# Altium schematic symbol library Resistor_0805.SchLib: 258 symbols (part 2 of 5)
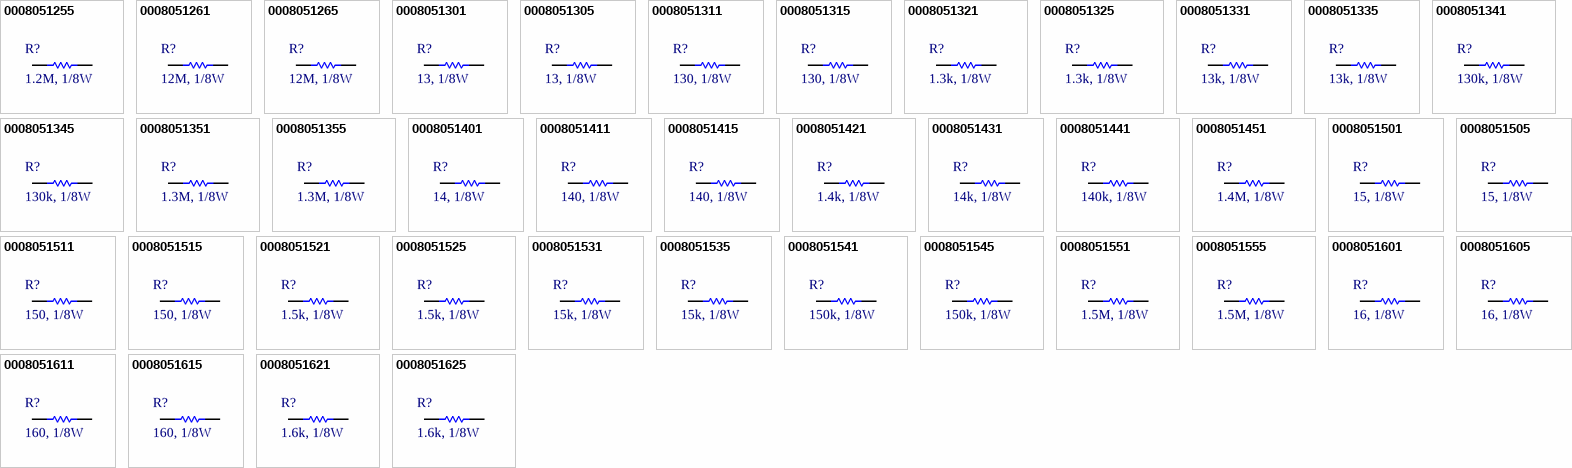
[diagram p7: symbols 0008051255 to 0008051625]

## 0008051451
designator R?, comment 1.4M, 1/8W
RES, 1.4M Ohm, size 0805, 1%; Manufacture  Name: Vishay Dale; Manufacture  SN: CRCW08051M40FKEA; Resistance tolerance: +/-1%; Supply 1 Name: Mouser; Supply 1 SN: 71-CRCW08051M40FKEA; Supply 2 Name: Digi-Key; Supply 2 SN: 541-1.40MCTR-ND; Supply 3 Name: Thegioiic; Size: 0805; Mounting Technology: SMT; Rated Power: 1/8 W; Datasheet: https://www.vishay.com/docs/20035/dcrcwe3.pdf; Resistance: 1.4M; Supply 1 URL: https://www.mouser.vn/ProductDetail/Vishay-Dale/CRCW08051M40FKEA?qs=1CkV0QOCgMrnDZ6HKgVapA%3D%3D; Supply 2 URL: https://www.digikey.com/en/products/detail/vishay-dale/CRCW08051M40FKEA/1176031; Supply 3 SN: N/A; Supply 3 URL: N/A
footprint RESISTOR_0805 (Chip Resistor, 2-Leads, Body 2,00x1,20mm, IPC Medium Density)
pins: 1, 2

## 0008051501
designator R?, comment 15, 1/8W
RES, 15 Ohm, size 0805, 1%; Manufacture  Name: Vishay Dale; Manufacture  SN: CRCW080515R0FKEB; Resistance tolerance: +/-1%; Resistance: 15; Supply 1 Name: Mouser; Supply 1 SN: 71-CRCW080515R0FKEAC; Supply 2 Name: Digi-Key; Supply 2 SN: 541-CRCW080515R0FKEBTR-ND; Supply 3 Name: Thegioiic; Size: 0805; Mounting Technology: SMT; Rated Power: 1/8 W; Datasheet: https://www.vishay.com/docs/20035/dcrcwe3.pdf; Supply 1 URL: https://www.mouser.vn/ProductDetail/Vishay-Dale/CRCW080515R0FKEAC?qs=E3Y5ESvWgWM44NF3DwTdDQ%3D%3D; Supply 2 URL: https://www.digikey.com/en/products/detail/vishay-dale/CRCW080515R0FKEB/5073898; Supply 3 SN: N/A; Supply 3 URL: https://www.mouser.vn/ProductDetail/Vishay-Dale/CRCW080514R0FKEA?qs=bMjB6bAaLENYJ14k%252BREMxw%3D%3D
footprint RESISTOR_0805 (Chip Resistor, 2-Leads, Body 2,00x1,20mm, IPC Medium Density)
pins: 1, 2

## 0008051505
designator R?, comment 15, 1/8W
RES, 15 Ohm, size 0805, 5%; Manufacture  Name: Vishay Dale; Manufacture  SN: CRCW080515R0JNEA; Resistance tolerance: +/-5%; Resistance: 15; Supply 1 Name: Mouser; Supply 1 SN: 71-CRCW0805J-15; Supply 2 Name: Digi-Key; Supply 2 SN: 541-15ATR-ND; Supply 3 Name: Thegioiic; Size: 0805; Mounting Technology: SMT; Rated Power: 1/8 W; Datasheet: https://www.vishay.com/docs/20035/dcrcwe3.pdf; Supply 1 URL: https://www.mouser.vn/ProductDetail/Vishay-Dale/CRCW080515R0JNTA?qs=7lMtFQ21GD%2Fy1G9yTvj1Dg%3D%3D; Supply 2 URL: https://www.digikey.com/en/products/detail/vishay-dale/CRCW080515R0JNEA/1175154; Supply 3 SN: N/A; Supply 3 URL: https://www.thegioiic.com/dien-tro-15-ohm-0805-5-
footprint RESISTOR_0805 (Chip Resistor, 2-Leads, Body 2,00x1,20mm, IPC Medium Density)
pins: 1, 2

## 0008051511
designator R?, comment 150, 1/8W
RES, 150 Ohm, size 0805, 1%; Manufacture  Name: Vishay Dale; Manufacture  SN: CRCW0805150RFKEAC; Resistance tolerance: +/-1%; Resistance: 150; Supply 1 Name: Mouser; Supply 1 SN: 71-CRCW0805150RFKEB; Supply 2 Name: Digi-Key; Supply 2 SN: 541-CRCW0805150RFKEACTR-ND; Supply 3 Name: Thegioiic; Size: 0805; Mounting Technology: SMT; Rated Power: 1/8 W; Datasheet: https://www.vishay.com/docs/28773/crcwce3.pdf; Supply 1 URL: https://www.mouser.vn/ProductDetail/Vishay-Dale/CRCW0805150RFKEB?qs=bMjB6bAaLEOZD7oncshwRw%3D%3D; Supply 2 URL: https://www.digikey.com/en/products/detail/vishay-dale/CRCW0805150RFKEAC/7922303; Supply 3 SN: N/A; Supply 3 URL: N/A
footprint RESISTOR_0805 (Chip Resistor, 2-Leads, Body 2,00x1,20mm, IPC Medium Density)
pins: 1, 2

## 0008051515
designator R?, comment 150, 1/8W
RES, 150 Ohm, size 0805, 5%; Manufacture  Name: Vishay Dale; Manufacture  SN: CRCW0805150RFKEAC; Resistance tolerance: +/-5%; Resistance: 150; Supply 1 Name: Mouser; Supply 1 SN: 541-150ATR-ND; Supply 2 Name: Digi-Key; Supply 3 Name: Thegioiic; Size: 0805; Mounting Technology: SMT; Rated Power: 1/8 W; Datasheet: https://www.vishay.com/docs/20035/dcrcwe3.pdf; Supply 1 URL: https://www.digikey.com/en/products/detail/vishay-dale/CRCW0805150RJNEA/1175178; Supply 2 SN: 541-150ATR-ND; Supply 2 URL: https://www.digikey.com/en/products/detail/vishay-dale/CRCW0805150RJNEA/1175178; Supply 3 SN: N/A; Supply 3 URL: https://www.thegioiic.com/dien-tro-150-ohm-0805-5
footprint RESISTOR_0805 (Chip Resistor, 2-Leads, Body 2,00x1,20mm, IPC Medium Density)
pins: 1, 2

## 0008051521
designator R?, comment 1.5k, 1/8W
RES, 1.5k Ohm, size 0805, 1%; Manufacture  Name: Vishay Dale; Manufacture  SN: CRCW08051K50FKEAC; Resistance tolerance: +/-1%; Supply 1 Name: Mouser; Supply 1 SN: 71-CRCW0805-1.5K-E3; Supply 2 Name: Digi-Key; Supply 2 SN: 541-4161-2-ND; Supply 3 Name: Thegioiic; Size: 0805; Mounting Technology: SMT; Rated Power: 1/8 W; Datasheet: https://www.vishay.com/docs/28773/crcwce3.pdf; Resistance: 1.5k; Supply 1 URL: https://www.mouser.vn/ProductDetail/Vishay-Dale/CRCW08051K50FKEA?qs=DZvKvnD5UYVo4ieimONp3Q%3D%3D; Supply 2 URL: https://www.digikey.com/en/products/detail/vishay-dale/CRCW08051K50FKEAC/7928583; Supply 3 SN: N/A; Supply 3 URL: N/A
footprint RESISTOR_0805 (Chip Resistor, 2-Leads, Body 2,00x1,20mm, IPC Medium Density)
pins: 1, 2

## 0008051525
designator R?, comment 1.5k, 1/8W
RES, 1.5k Ohm, size 0805, 5%; Manufacture  Name: Vishay Dale; Manufacture  SN: CRCW08051K50JNEAC; Resistance tolerance: +/-5%; Supply 1 Name: Mouser; Supply 1 SN: 71-CRCW0805J-1.5K-E3; Supply 2 Name: Digi-Key; Supply 2 SN: 541-CRCW08051K50JNEACTR-ND; Supply 3 Name: Thegioiic; Size: 0805; Mounting Technology: SMT; Rated Power: 1/8 W; Datasheet: https://www.vishay.com/docs/28773/crcwce3.pdf; Resistance: 1.5k; Supply 1 URL: https://www.mouser.vn/ProductDetail/Vishay-Dale/CRCW08051K50JNEA?qs=DZvKvnD5UYVu0sAToX1nWg%3D%3D; Supply 2 URL: https://www.digikey.com/en/products/detail/vishay-dale/CRCW08051K50JNEAC/7923721; Supply 3 SN: N/A; Supply 3 URL: https://www.thegioiic.com/dien-tro-1-5-kohm-0805-5
footprint RESISTOR_0805 (Chip Resistor, 2-Leads, Body 2,00x1,20mm, IPC Medium Density)
pins: 1, 2

## 0008051531
designator R?, comment 15k, 1/8W
RES, 15k Ohm, size 0805, 1%; Manufacture  Name: Vishay Dale; Manufacture  SN: CRCW080515K0FKEAC; Resistance tolerance: +/-1%; Supply 1 Name: Mouser; Supply 1 SN: 71-CRCW0805-15K-E3; Supply 2 Name: Digi-Key; Supply 2 SN: 541-4136-2-ND; Supply 3 Name: Thegioiic; Size: 0805; Mounting Technology: SMT; Rated Power: 1/8 W; Datasheet: https://www.vishay.com/docs/28773/crcwce3.pdf; Resistance: 15k; Supply 1 URL: https://www.mouser.vn/ProductDetail/Vishay-Dale/CRCW080515K0FKEA?qs=bMjB6bAaLEM4rXT2DoR3BA%3D%3D; Supply 2 URL: https://www.digikey.com/en/products/detail/vishay-dale/CRCW080515K0FKEAC/7928558; Supply 3 SN: N/A; Supply 3 URL: N/A
footprint RESISTOR_0805 (Chip Resistor, 2-Leads, Body 2,00x1,20mm, IPC Medium Density)
pins: 1, 2

## 0008051535
designator R?, comment 15k, 1/8W
RES, 15k Ohm, size 0805, 5%; Manufacture  Name: Vishay Dale; Manufacture  SN: CRCW080515K0JNEA; Resistance tolerance: +/-5%; Supply 1 Name: Mouser; Supply 1 SN: 71-CRCW0805J-15K-E3; Supply 2 Name: Digi-Key; Supply 2 SN: 541-15KATR-ND; Supply 3 Name: Thegioiic; Size: 0805; Mounting Technology: SMT; Rated Power: 1/8 W; Datasheet: https://www.vishay.com/docs/20035/dcrcwe3.pdf; Resistance: 15k; Supply 1 URL: https://www.mouser.vn/ProductDetail/Vishay-Dale/CRCW080515K0JNEA?qs=bMjB6bAaLENV0lmPLLG8xQ%3D%3D; Supply 2 URL: https://www.digikey.com/en/products/detail/vishay-dale/CRCW080515K0JNEA/1175226; Supply 3 SN: N/A; Supply 3 URL: https://www.thegioiic.com/dien-tro-15-kohm-0805-5
footprint RESISTOR_0805 (Chip Resistor, 2-Leads, Body 2,00x1,20mm, IPC Medium Density)
pins: 1, 2

## 0008051541
designator R?, comment 150k, 1/8W
RES, 150k Ohm, size 0805, 1%; Manufacture  Name: Vishay Dale; Manufacture  SN: CRCW0805150KFKEAC; Resistance tolerance: +/-1%; Supply 1 Name: Mouser; Supply 1 SN: 71-RCV0805150KFKEA; Supply 2 Name: Digi-Key; Supply 2 SN: 541-CRCW0805150KFKEACTR-ND; Supply 3 Name: Thegioiic; Size: 0805; Mounting Technology: SMT; Rated Power: 1/8 W; Datasheet: https://www.vishay.com/docs/28773/crcwce3.pdf; Resistance: 150k; Supply 1 URL: https://www.mouser.vn/ProductDetail/Vishay-Draloric/RCV0805150KFKEA?qs=%252BZJHVReOaHoD19mGJzXQNg%3D%3D; Supply 2 URL: https://www.digikey.com/en/products/detail/vishay-dale/CRCW0805150KFKEAC/7922326; Supply 3 SN: N/A; Supply 3 URL: https://www.vishay.com/docs/28773/crcwce3.pdf
footprint RESISTOR_0805 (Chip Resistor, 2-Leads, Body 2,00x1,20mm, IPC Medium Density)
pins: 1, 2

## 0008051545
designator R?, comment 150k, 1/8W
RES, 150k Ohm, size 0805, 5%; Manufacture  Name: Vishay Dale; Manufacture  SN: CRCW0805150KJNEA; Resistance tolerance: +/-5%; Supply 1 Name: Mouser; Supply 1 SN: 71-CRCW0805150KJNEA; Supply 2 Name: Digi-Key; Supply 2 SN: 541-150KATR-ND; Supply 3 Name: Thegioiic; Size: 0805; Mounting Technology: SMT; Rated Power: 1/8 W; Datasheet: https://www.vishay.com/docs/20035/dcrcwe3.pdf; Resistance: 150k; Supply 1 URL: https://www.mouser.vn/ProductDetail/Vishay-Dale/CRCW0805150KJNEA?qs=bMjB6bAaLEMh7CXrahQqdQ%3D%3D; Supply 2 URL: https://www.digikey.com/en/products/detail/vishay-dale/CRCW0805150KJNEA/1175250; Supply 3 SN: N/A; Supply 3 URL: https://www.thegioiic.com/dien-tro-150-kohm-0805-5
footprint RESISTOR_0805 (Chip Resistor, 2-Leads, Body 2,00x1,20mm, IPC Medium Density)
pins: 1, 2

## 0008051551
designator R?, comment 1.5M, 1/8W
RES, 1.5M Ohm, size 0805, 1%; Manufacture  Name: Vishay Dale; Manufacture  SN: CRCW08051M50FKEB; Resistance tolerance: +/-1%; Supply 1 Name: Mouser; Supply 1 SN: 71-CRCW08051M50FKEAC; Supply 2 Name: Digi-Key; Supply 2 SN: 541-CRCW08051M50FKEBTR-ND; Supply 3 Name: Thegioiic; Size: 0805; Mounting Technology: SMT; Rated Power: 1/8 W; Datasheet: https://www.vishay.com/docs/20035/dcrcwe3.pdf; Resistance: 1.5M; Supply 1 URL: https://www.mouser.vn/ProductDetail/Vishay-Dale/CRCW08051M50FKEAC?qs=E3Y5ESvWgWPkTbMzua%252BFLg%3D%3D; Supply 2 URL: https://www.digikey.com/en/products/detail/vishay-dale/CRCW08051M50FKEB/5074207; Supply 3 SN: N/A; Supply 3 URL: N/A
footprint RESISTOR_0805 (Chip Resistor, 2-Leads, Body 2,00x1,20mm, IPC Medium Density)
pins: 1, 2

## 0008051555
designator R?, comment 1.5M, 1/8W
RES, 1.5M Ohm, size 0805, 5%; Manufacture  Name: Vishay Dale; Manufacture  SN: CRCW08051M50JNEA; Resistance tolerance: +/-5%; Supply 1 Name: Mouser; Supply 1 SN: 71-CRCW08051M50JNEA; Supply 2 Name: Digi-Key; Supply 2 SN: 541-1.5MATR-ND; Supply 3 Name: Thegioiic; Size: 0805; Mounting Technology: SMT; Rated Power: 1/8 W; Datasheet: https://www.vishay.com/docs/20035/dcrcwe3.pdf; Resistance: 1.5M; Supply 1 URL: https://www.mouser.vn/ProductDetail/Vishay-Dale/CRCW08051M50JNEA?qs=1CkV0QOCgMooXqsYWJtv9Q%3D%3D; Supply 2 URL: https://www.digikey.com/en/products/detail/vishay-dale/CRCW08051M50JNEA/1175274; Supply 3 SN: N/A; Supply 3 URL: https://www.thegioiic.com/dien-tro-1-5-mohm-0805-5
footprint RESISTOR_0805 (Chip Resistor, 2-Leads, Body 2,00x1,20mm, IPC Medium Density)
pins: 1, 2

## 0008051601
designator R?, comment 16, 1/8W
RES, 16 Ohm, size 0805, 1%; Manufacture  Name: Vishay Dale; Manufacture  SN: CRCW080516R0FKEA; Resistance tolerance: +/-1%; Resistance: 16; Supply 1 Name: Mouser; Supply 1 SN: 71-CRCW080516R0FKEA; Supply 2 Name: Digi-Key; Supply 2 SN: 541-16.0CTR-ND; Supply 3 Name: Thegioiic; Size: 0805; Mounting Technology: SMT; Rated Power: 1/8 W; Datasheet: https://www.vishay.com/docs/20035/dcrcwe3.pdf; Supply 1 URL: https://www.mouser.vn/ProductDetail/Vishay-Dale/CRCW080516R0FKEA?qs=3ySnGRKSeyR1iWFsu%2FZBpQ%3D%3D; Supply 2 URL: https://www.digikey.com/en/products/detail/vishay-dale/CRCW080516R0FKEA/1175430; Supply 3 SN: N/A; Supply 3 URL: N/A
footprint RESISTOR_0805 (Chip Resistor, 2-Leads, Body 2,00x1,20mm, IPC Medium Density)
pins: 1, 2

## 0008051605
designator R?, comment 16, 1/8W
RES, 16 Ohm, size 0805, 5%; Manufacture  Name: Vishay Dale; Manufacture  SN: CRCW080516R0JNEA; Resistance tolerance: +/-5%; Resistance: 16; Supply 1 Name: Mouser; Supply 1 SN: 71-CRCW080516R0JNEA; Supply 2 Name: Digi-Key; Supply 2 SN: 541-16ATR-ND; Supply 3 Name: Thegioiic; Size: 0805; Mounting Technology: SMT; Rated Power: 1/8 W; Datasheet: https://www.vishay.com/docs/20035/dcrcwe3.pdf; Supply 1 URL: https://www.mouser.vn/ProductDetail/Vishay-Dale/CRCW080516R0JNEA?qs=2mNt4BZ3oPyhLk0EE%252BJFZw%3D%3D; Supply 2 URL: https://www.digikey.com/en/products/detail/vishay-dale/CRCW080516R0JNEA/1175155; Supply 3 SN: N/A; Supply 3 URL: https://www.thegioiic.com/dien-tro-16-ohm-0805-5-
footprint RESISTOR_0805 (Chip Resistor, 2-Leads, Body 2,00x1,20mm, IPC Medium Density)
pins: 1, 2

## 0008051611
designator R?, comment 160, 1/8W
RES, 160 Ohm, size 0805, 1%; Manufacture  Name: Vishay Dale; Manufacture  SN: CRCW0805160RFKEA; Resistance tolerance: +/-1%; Resistance: 160; Supply 1 Name: Mouser; Supply 1 SN: 71-CRCW0805-160; Supply 2 Name: Digi-Key; Supply 2 SN: 541-160CTR-ND; Supply 3 Name: Thegioiic; Size: 0805; Mounting Technology: SMT; Rated Power: 1/8 W; Datasheet: https://www.vishay.com/docs/20035/dcrcwe3.pdf; Supply 1 URL: https://www.mouser.vn/ProductDetail/Vishay-Dale/CRCW0805160RFKTA?qs=gDaCAY0XVXFAHdJsLcN14A%3D%3D; Supply 2 URL: https://www.digikey.com/en/products/detail/vishay-dale/CRCW0805160RFKEA/1175544; Supply 3 SN: N/A; Supply 3 URL: N/A
footprint RESISTOR_0805 (Chip Resistor, 2-Leads, Body 2,00x1,20mm, IPC Medium Density)
pins: 1, 2

## 0008051615
designator R?, comment 160, 1/8W
RES, 160 Ohm, size 0805, 5%; Manufacture  Name: Vishay Dale; Manufacture  SN: CRCW0805160RJNEA; Resistance tolerance: +/-5%; Resistance: 160; Supply 1 Name: Mouser; Supply 1 SN: 71-CRCW0805160RJNEA; Supply 2 Name: Digi-Key; Supply 2 SN: 541-160ATR-ND; Supply 3 Name: Thegioiic; Size: 0805; Mounting Technology: SMT; Rated Power: 1/8 W; Datasheet: https://www.vishay.com/docs/20035/dcrcwe3.pdf; Supply 1 URL: https://www.mouser.vn/ProductDetail/Vishay-Dale/CRCW0805160RJNEA?qs=bMjB6bAaLEPyPBo8gbRxtw%3D%3D; Supply 2 URL: https://www.digikey.com/en/products/detail/vishay-dale/CRCW0805160RJNEA/1175179; Supply 3 SN: N/A; Supply 3 URL: https://www.thegioiic.com/dien-tro-160-ohm-0805-5
footprint RESISTOR_0805 (Chip Resistor, 2-Leads, Body 2,00x1,20mm, IPC Medium Density)
pins: 1, 2

## 0008051621
designator R?, comment 1.6k, 1/8W
RES, 1.6k Ohm, size 0805, 1%; Manufacture  Name: Vishay Dale; Manufacture  SN: CRCW08051K60FKEAC; Resistance tolerance: +/-1%; Supply 1 Name: Mouser; Supply 1 SN: 71-CRCW08051K60FKEA; Supply 2 Name: Digi-Key; Supply 2 SN: 541-CRCW08051K60FKEACTR-ND; Supply 3 Name: Thegioiic; Size: 0805; Mounting Technology: SMT; Rated Power: 1/8 W; Datasheet: https://www.vishay.com/docs/28773/crcwce3.pdf; Resistance: 1.6k; Supply 1 URL: https://www.mouser.vn/ProductDetail/Vishay-Dale/CRCW08051K60FKEA?qs=1CkV0QOCgMpD4fa496FW%2FQ%3D%3D; Supply 2 URL: https://www.digikey.com/en/products/detail/vishay-dale/CRCW08051K60FKEAC/7922561; Supply 3 SN: N/A; Supply 3 URL: N/A
footprint RESISTOR_0805 (Chip Resistor, 2-Leads, Body 2,00x1,20mm, IPC Medium Density)
pins: 1, 2

## 0008051625
designator R?, comment 1.6k, 1/8W
RES, 1.6k Ohm, size 0805, 5%; Manufacture  Name: Vishay Dale; Manufacture  SN: CRCW08051K60JNEA; Resistance tolerance: +/-5%; Supply 1 Name: Mouser; Supply 1 SN: 71-CRCW08051K60JNEA; Supply 2 Name: Digi-Key; Supply 2 SN: 541-1.6KATR-ND; Supply 3 Name: Thegioiic; Size: 0805; Mounting Technology: SMT; Rated Power: 1/8 W; Datasheet: https://www.vishay.com/docs/20035/dcrcwe3.pdf; Resistance: 1.6k; Supply 1 URL: https://www.mouser.vn/ProductDetail/Vishay-Dale/CRCW08051K60JNEA?qs=1CkV0QOCgMp9ti69jxGtDQ%3D%3D; Supply 2 URL: https://www.digikey.com/en/products/detail/vishay-dale/CRCW08051K60JNEA/1175203; Supply 3 SN: N/A; Supply 3 URL: https://www.thegioiic.com/dien-tro-1-6-kohm-0805-5
footprint RESISTOR_0805 (Chip Resistor, 2-Leads, Body 2,00x1,20mm, IPC Medium Density)
pins: 1, 2

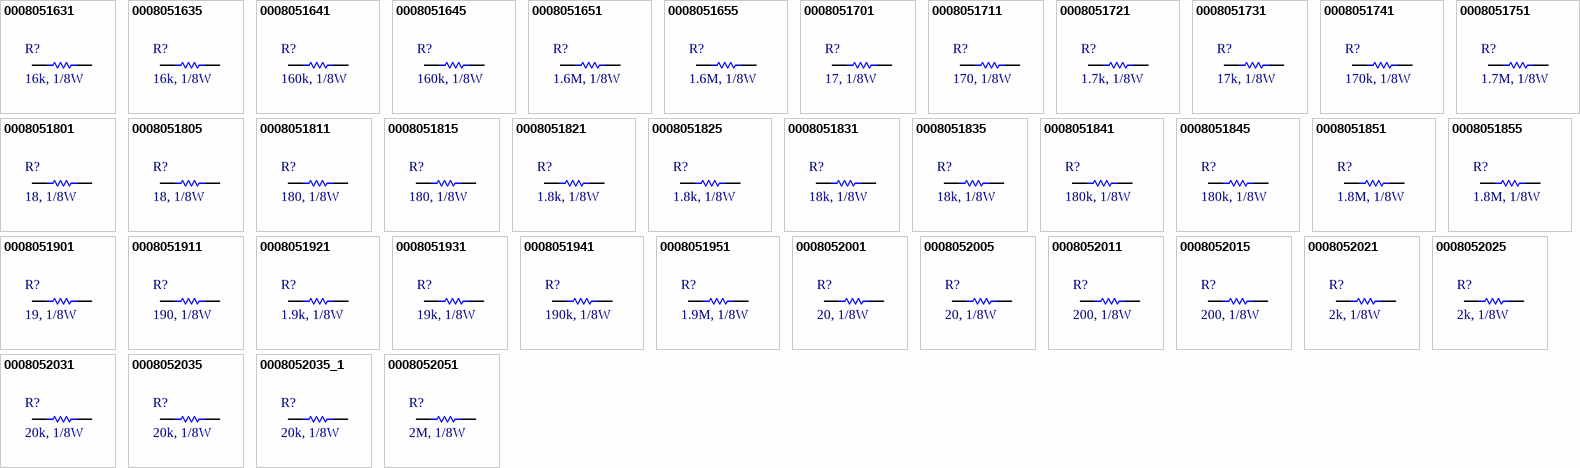
[diagram p2: symbols 0008051631 to 0008052051]

## 0008051631
designator R?, comment 16k, 1/8W
RES, 16k Ohm, size 0805, 1%; Manufacture  Name: Vishay Dale; Manufacture  SN: CRCW080516K0FKEA; Resistance tolerance: +/-1%; Supply 1 Name: Mouser; Supply 1 SN: 71-CRCW080516K0FKEA; Supply 2 Name: Digi-Key; Supply 2 SN: 541-16.0KCTR-ND; Supply 3 Name: Thegioiic; Size: 0805; Mounting Technology: SMT; Rated Power: 1/8 W; Datasheet: https://www.vishay.com/docs/20035/dcrcwe3.pdf; Resistance: 16k; Supply 1 URL: https://www.mouser.vn/ProductDetail/Vishay-Dale/CRCW080516K0FKEA?qs=2mNt4BZ3oPz8gFxKsC%252Bkpg%3D%3D; Supply 2 URL: https://www.digikey.com/en/products/detail/vishay-dale/CRCW080516K0FKEA/1175772; Supply 3 SN: N/A; Supply 3 URL: N/A
footprint RESISTOR_0805 (Chip Resistor, 2-Leads, Body 2,00x1,20mm, IPC Medium Density)
pins: 1, 2

## 0008051635
designator R?, comment 16k, 1/8W
RES, 16k Ohm, size 0805, 5%; Manufacture  Name: Vishay Dale; Manufacture  SN: CRCW080516K0JNEA; Resistance tolerance: +/-5%; Supply 1 Name: Mouser; Supply 1 SN: 71-CRCW080516K0JNEA; Supply 2 Name: Digi-Key; Supply 2 SN: 541-16KATR-ND; Supply 3 Name: Thegioiic; Size: 0805; Mounting Technology: SMT; Rated Power: 1/8 W; Datasheet: https://www.vishay.com/docs/20035/dcrcwe3.pdf; Resistance: 16k; Supply 1 URL: https://www.mouser.vn/ProductDetail/Vishay-Dale/CRCW080516K0JNEA?qs=2mNt4BZ3oPz0YxKgjgScdw%3D%3D; Supply 2 URL: https://www.digikey.com/en/products/detail/vishay-dale/CRCW080516K0JNEA/1175227; Supply 3 SN: N/A; Supply 3 URL: https://www.thegioiic.com/dien-tro-16-kohm-0805-5
footprint RESISTOR_0805 (Chip Resistor, 2-Leads, Body 2,00x1,20mm, IPC Medium Density)
pins: 1, 2

## 0008051641
designator R?, comment 160k, 1/8W
RES, 160k Ohm, size 0805, 1%; Manufacture  Name: Vishay Dale; Manufacture  SN: CRCW0805160KFKEA; Resistance tolerance: +/-1%; Supply 1 Name: Mouser; Supply 1 SN: 71-CRCW0805160KFKEA; Supply 2 Name: Digi-Key; Supply 2 SN: 541-160KCTR-ND; Supply 3 Name: Thegioiic; Size: 0805; Mounting Technology: SMT; Rated Power: 1/8 W; Datasheet: https://www.vishay.com/docs/20035/dcrcwe3.pdf; Resistance: 160k; Supply 1 URL: https://www.mouser.vn/ProductDetail/Vishay-Dale/CRCW0805160KFKEA?qs=K41p2XksEyGudUKnUltmEw%3D%3D; Supply 2 URL: https://www.digikey.com/en/products/detail/vishay-dale/CRCW0805160KFKEA/1175886; Supply 3 SN: N/A; Supply 3 URL: N/A
footprint RESISTOR_0805 (Chip Resistor, 2-Leads, Body 2,00x1,20mm, IPC Medium Density)
pins: 1, 2

## 0008051645
designator R?, comment 160k, 1/8W
RES, 160k Ohm, size 0805, 5%; Manufacture  Name: Vishay Dale; Manufacture  SN: CRCW0805160RJNEA; Resistance tolerance: +/-5%; Supply 1 Name: Mouser; Supply 1 SN: 71-CRCW0805160KJNEA; Supply 2 Name: Digi-Key; Supply 2 SN: 541-160ATR-ND; Supply 3 Name: Thegioiic; Size: 0805; Mounting Technology: SMT; Rated Power: 1/8 W; Datasheet: https://www.vishay.com/docs/20035/dcrcwe3.pdf; Resistance: 160k; Supply 1 URL: https://www.mouser.vn/ProductDetail/Vishay-Dale/CRCW0805160KJNEA?qs=bMjB6bAaLENzV8duqa5ZYg%3D%3D; Supply 2 URL: https://www.digikey.com/en/products/detail/vishay-dale/CRCW0805160RJNEA/1175179; Supply 3 SN: N/A; Supply 3 URL: https://www.thegioiic.com/dien-tro-160-kohm-0805-5
footprint RESISTOR_0805 (Chip Resistor, 2-Leads, Body 2,00x1,20mm, IPC Medium Density)
pins: 1, 2

## 0008051651
designator R?, comment 1.6M, 1/8W
RES, 1.6M Ohm, size 0805, 1%; Manufacture  Name: Vishay Dale; Manufacture  SN: CRCW08051M60FKEA; Resistance tolerance: +/-1%; Supply 1 Name: Mouser; Supply 1 SN: 71-CRCW08051M60FKEA; Supply 2 Name: Digi-Key; Supply 2 SN: 541-1.60MCTR-ND; Supply 3 Name: Thegioiic; Size: 0805; Mounting Technology: SMT; Rated Power: 1/8 W; Datasheet: https://www.vishay.com/docs/20035/dcrcwe3.pdf; Resistance: 1.6M; Supply 1 URL: https://www.mouser.vn/ProductDetail/Vishay-Dale/CRCW08051M60FKEA?qs=uQdQW2oKfUW%2F4zUqScrJaQ%3D%3D; Supply 2 URL: https://www.digikey.com/en/products/detail/vishay-dale/CRCW08051M60FKEA/1176037; Supply 3 SN: N/A; Supply 3 URL: N/A
footprint RESISTOR_0805 (Chip Resistor, 2-Leads, Body 2,00x1,20mm, IPC Medium Density)
pins: 1, 2

## 0008051655
designator R?, comment 1.6M, 1/8W
RES, 1.6M Ohm, size 0805, 5%; Manufacture  Name: Vishay Dale; Manufacture  SN: CRCW08051M60JNEA; Resistance tolerance: +/-5%; Supply 1 Name: Mouser; Supply 1 SN: 71-CRCW08051M60JNEA; Supply 2 Name: Digi-Key; Supply 2 SN: 541-1.6MATR-ND; Supply 3 Name: Thegioiic; Size: 0805; Mounting Technology: SMT; Rated Power: 1/8 W; Datasheet: https://www.vishay.com/docs/20035/dcrcwe3.pdf; Resistance: 1.6M; Supply 1 URL: https://www.mouser.vn/ProductDetail/Vishay-Dale/CRCW08051M60JNEA?qs=1CkV0QOCgMp8tYAVVZEuMg%3D%3D; Supply 2 URL: https://www.digikey.com/en/products/detail/vishay-dale/CRCW08051M60JNEA/1175275; Supply 3 SN: N/A; Supply 3 URL: https://www.thegioiic.com/dien-tro-1-6-mohm-0805-5
footprint RESISTOR_0805 (Chip Resistor, 2-Leads, Body 2,00x1,20mm, IPC Medium Density)
pins: 1, 2

## 0008051701
designator R?, comment 17, 1/8W
RES, 17 Ohm, size 0805, 1%; Manufacture  Name: Vishay Dale; Manufacture  SN: WSL0805R0100FEA; Resistance tolerance: +/-1%; Resistance: 17; Supply 1 Name: Mouser; Supply 1 SN: 71-CRCW0805-17.4; Supply 2 Name: Digi-Key; Supply 2 SN: WSLA-.01TR-ND; Supply 3 Name: Thegioiic; Size: 0805; Mounting Technology: SMT; Rated Power: 1/8 W; Datasheet: https://www.vishay.com/docs/30100/wsl.pdf; Supply 1 URL: https://www.mouser.vn/ProductDetail/Vishay-Dale/CRCW080517R4FKTA?qs=oNEoSKgIPbHcFwc%252BHnSBwQ%3D%3D; Supply 2 URL: https://www.digikey.com/en/products/detail/vishay-dale/WSL0805R0100FEA/712452; Supply 3 SN: N/A; Supply 3 URL: N/A
footprint RESISTOR_0805 (Chip Resistor, 2-Leads, Body 2,00x1,20mm, IPC Medium Density)
pins: 1, 2

## 0008051711
designator R?, comment 170, 1/8W
RES, 170 Ohm, size 0805, 1%; Manufacture  Name: Vishay Dale; Manufacture  SN: CRCW0805174RFKEA; Resistance tolerance: +/-1%; Resistance: 170; Supply 1 Name: Mouser; Supply 1 SN: 71-CRCW0805-174-E3; Supply 2 Name: Digi-Key; Supply 2 SN: 541-174CTR-ND; Supply 3 Name: Thegioiic; Size: 0805; Mounting Technology: SMT; Rated Power: 1/8 W; Datasheet: https://www.vishay.com/docs/20035/dcrcwe3.pdf; Supply 1 URL: https://www.mouser.vn/ProductDetail/Vishay-Dale/CRCW0805174RFKEA?qs=2mNt4BZ3oPxH3Lr34Rz8ow%3D%3D; Supply 2 URL: https://www.digikey.com/en/products/detail/vishay-dale/CRCW0805174RFKEA/1175548; Supply 3 SN: N/A; Supply 3 URL: N/A
footprint RESISTOR_0805 (Chip Resistor, 2-Leads, Body 2,00x1,20mm, IPC Medium Density)
pins: 1, 2

## 0008051721
designator R?, comment 1.7k, 1/8W
RES, 1.7k Ohm, size 0805, 1%; Manufacture  Name: Vishay Dale; Manufacture  SN: CRCW08051K74FKEA; Resistance tolerance: +/-1%; Supply 1 Name: Mouser; Supply 1 SN: 71-CRCW08051R74FKEA; Supply 2 Name: Digi-Key; Supply 2 SN: 541-1.74KCTR-ND; Supply 3 Name: Thegioiic; Size: 0805; Mounting Technology: SMT; Rated Power: 1/8 W; Datasheet: https://www.vishay.com/docs/20035/dcrcwe3.pdf; Resistance: 1.7k; Supply 1 URL: https://www.mouser.vn/ProductDetail/Vishay-Dale/CRCW08051R74FKEA?qs=VZN8LE6el69bxHRyB8AcJA%3D%3D; Supply 2 URL: https://www.digikey.com/en/products/detail/vishay-dale/CRCW08051K74FKEA/1175662; Supply 3 SN: N/A; Supply 3 URL: N/A
footprint RESISTOR_0805 (Chip Resistor, 2-Leads, Body 2,00x1,20mm, IPC Medium Density)
pins: 1, 2

## 0008051731
designator R?, comment 17k, 1/8W
RES, 17k Ohm, size 0805, 1%; Manufacture  Name: Vishay Dale; Manufacture  SN: CRCW080516K9FKEA; Resistance tolerance: +/-1%; Supply 1 Name: Mouser; Supply 1 SN: 71-CRCW080516R9FKEA; Supply 2 Name: Digi-Key; Supply 2 SN: 541-16.9KCTR-ND; Supply 3 Name: Thegioiic; Size: 0805; Mounting Technology: SMT; Rated Power: 1/8 W; Datasheet: https://www.vishay.com/docs/20035/dcrcwe3.pdf; Resistance: 17k; Supply 1 URL: https://www.mouser.vn/ProductDetail/Vishay-Dale/CRCW080516R9FKEA?qs=2mNt4BZ3oPy6ledn75dEfw%3D%3D; Supply 2 URL: https://www.digikey.com/en/products/detail/vishay-dale/CRCW080516K9FKEA/1175775; Supply 3 SN: N/A; Supply 3 URL: https://www.thegioiic.com/dien-tro-16-9-kohm-0805-1
footprint RESISTOR_0805 (Chip Resistor, 2-Leads, Body 2,00x1,20mm, IPC Medium Density)
pins: 1, 2

## 0008051741
designator R?, comment 170k, 1/8W
RES, 170k Ohm, size 0805, 1%; Manufacture  Name: Vishay Dale; Manufacture  SN: CRCW0805169KFKEA; Resistance tolerance: +/-1%; Supply 1 Name: Mouser; Supply 1 SN: 71-CRCW0805169KFKEA; Supply 2 Name: Digi-Key; Supply 2 SN: 541-169KCTR-ND; Supply 3 Name: Thegioiic; Size: 0805; Mounting Technology: SMT; Rated Power: 1/8 W; Datasheet: https://www.vishay.com/docs/20035/dcrcwe3.pdf; Resistance: 170k; Supply 1 URL: https://www.mouser.vn/ProductDetail/Vishay-Dale/CRCW0805169KFKEA?qs=2mNt4BZ3oPxAzoQkYaNjxQ%3D%3D; Supply 2 URL: https://www.digikey.com/en/products/detail/vishay-dale/CRCW0805169KFKEA/1175889; Supply 3 SN: N/A; Supply 3 URL: https://www.vishay.com/docs/20035/dcrcwe3.pdf
footprint RESISTOR_0805 (Chip Resistor, 2-Leads, Body 2,00x1,20mm, IPC Medium Density)
pins: 1, 2

## 0008051751
designator R?, comment 1.7M, 1/8W
RES, 1.7M Ohm, size 0805, 1%; Manufacture  Name: Vishay Dale; Manufacture  SN: CRCW08051M69FKEA; Resistance tolerance: +/-1%; Supply 1 Name: Mouser; Supply 1 SN: 71-CRCW08051M69FKEA; Supply 2 Name: Digi-Key; Supply 2 SN: 541-1.69MCTR-ND; Supply 3 Name: Thegioiic; Size: 0805; Mounting Technology: SMT; Rated Power: 1/8 W; Datasheet: https://www.vishay.com/docs/20035/dcrcwe3.pdf; Resistance: 1.7M; Supply 1 URL: https://www.mouser.vn/ProductDetail/Vishay-Dale/CRCW08051M69FKEA?qs=uQdQW2oKfUWB0BOy%2FF%2FQ%252Bw%3D%3D; Supply 2 URL: https://www.digikey.com/en/products/detail/vishay-dale/CRCW08051M69FKEA/1176040; Supply 3 SN: N/A; Supply 3 URL: N/A
footprint RESISTOR_0805 (Chip Resistor, 2-Leads, Body 2,00x1,20mm, IPC Medium Density)
pins: 1, 2

## 0008051801
designator R?, comment 18, 1/8W
RES, 18 Ohm, size 0805, 1%; Manufacture  Name: Vishay Dale; Manufacture  SN: CRCW080518R0FKEAC; Resistance tolerance: +/-1%; Resistance: 18; Supply 1 Name: Mouser; Supply 1 SN: 71-CRCW080518R0FKEA; Supply 2 Name: Digi-Key; Supply 2 SN: 541-CRCW080518R0FKEACTR-ND; Supply 3 Name: Thegioiic; Size: 0805; Mounting Technology: SMT; Rated Power: 1/8 W; Datasheet: https://www.vishay.com/docs/28773/crcwce3.pdf; Supply 1 URL: https://www.mouser.vn/ProductDetail/Vishay-Dale/CRCW080518R0FKEA?qs=DZvKvnD5UYXeNlxVPLgBIg%3D%3D; Supply 2 URL: https://www.digikey.com/en/products/detail/vishay-dale/CRCW080518R0FKEAC/7922560; Supply 3 SN: N/A; Supply 3 URL: N/A
footprint RESISTOR_0805 (Chip Resistor, 2-Leads, Body 2,00x1,20mm, IPC Medium Density)
pins: 1, 2

## 0008051805
designator R?, comment 18, 1/8W
RES, 18 Ohm, size 0805, 5%; Manufacture  Name: Vishay Dale; Manufacture  SN: CRCW080518R0JNEA; Resistance tolerance: +/-5%; Resistance: 18; Supply 1 Name: Mouser; Supply 1 SN: 71-CRCW080518R0JNEA; Supply 2 Name: Digi-Key; Supply 2 SN: 541-18ATR-ND; Supply 3 Name: Thegioiic; Size: 0805; Mounting Technology: SMT; Rated Power: 1/8 W; Datasheet: https://www.vishay.com/docs/20035/dcrcwe3.pdf; Supply 1 URL: https://www.mouser.vn/ProductDetail/Vishay-Dale/CRCW080518R0JNEA?qs=DZvKvnD5UYVzWW6FXLIdlg%3D%3D; Supply 2 URL: https://www.digikey.com/en/products/detail/vishay-dale/CRCW080518R0JNEA/1175156; Supply 3 SN: N/A; Supply 3 URL: https://www.thegioiic.com/dien-tro-18-ohm-0805-5-
footprint RESISTOR_0805 (Chip Resistor, 2-Leads, Body 2,00x1,20mm, IPC Medium Density)
pins: 1, 2

## 0008051811
designator R?, comment 180, 1/8W
RES, 180 Ohm, size 0805, 1%; Manufacture  Name: Vishay Dale; Manufacture  SN: CRCW0805180RFKEA; Resistance tolerance: +/-1%; Resistance: 180; Supply 1 Name: Mouser; Supply 1 SN: 71-CRCW0805180RFKEA; Supply 2 Name: Digi-Key; Supply 2 SN: 541-180CTR-ND; Supply 3 Name: Thegioiic; Size: 0805; Mounting Technology: SMT; Rated Power: 1/8 W; Datasheet: https://www.vishay.com/docs/20035/dcrcwe3.pdf; Supply 1 URL: https://www.mouser.vn/ProductDetail/Vishay-Dale/CRCW0805180RFKEA?qs=2mNt4BZ3oPx3JSoDddPwBg%3D%3D; Supply 2 URL: https://www.digikey.com/en/products/detail/vishay-dale/CRCW0805180RFKEA/1175550; Supply 3 SN: N/A; Supply 3 URL: https://www.thegioiic.com/dien-tro-180-ohm-0805-1
footprint RESISTOR_0805 (Chip Resistor, 2-Leads, Body 2,00x1,20mm, IPC Medium Density)
pins: 1, 2

## 0008051815
designator R?, comment 180, 1/8W
RES, 180 Ohm, size 0805, 5%; Manufacture  Name: Vishay Dale; Manufacture  SN: CRCW0805180RJNEA; Resistance tolerance: +/-5%; Resistance: 180; Supply 1 Name: Mouser; Supply 1 SN: 71-CRCW0805180RJNEA; Supply 2 Name: Digi-Key; Supply 2 SN: 541-180ATR-ND; Supply 3 Name: Thegioiic; Size: 0805; Mounting Technology: SMT; Rated Power: 1/8 W; Datasheet: https://www.vishay.com/docs/20035/dcrcwe3.pdf; Supply 1 URL: https://www.mouser.vn/ProductDetail/Vishay-Dale/CRCW0805180RJNEA?qs=2mNt4BZ3oPw5LDq56YqQBw%3D%3D; Supply 2 URL: https://www.digikey.com/en/products/detail/vishay-dale/CRCW0805180RJNEA/1175180; Supply 3 SN: N/A; Supply 3 URL: https://www.thegioiic.com/dien-tro-180-ohm-0805-5
footprint RESISTOR_0805 (Chip Resistor, 2-Leads, Body 2,00x1,20mm, IPC Medium Density)
pins: 1, 2

## 0008051821
designator R?, comment 1.8k, 1/8W
RES, 1.8k Ohm, size 0805, 1%; Manufacture  Name: Vishay Dale; Manufacture  SN: CRCW08051K80FKEAC; Resistance tolerance: +/-1%; Supply 1 Name: Mouser; Supply 1 SN: 71-CRCW0805-1.8K; Supply 2 Name: Digi-Key; Supply 2 SN: 541-CRCW08051K80FKEACTR-ND; Supply 3 Name: Thegioiic; Size: 0805; Mounting Technology: SMT; Rated Power: 1/8 W; Datasheet: https://www.vishay.com/docs/28773/crcwce3.pdf; Resistance: 1.8k; Supply 1 URL: https://www.mouser.vn/ProductDetail/Vishay-Dale/CRCW08051K80FKTA?qs=%2FCr5RXwmPBPYh0ghdoWn4A%3D%3D; Supply 2 URL: https://www.digikey.com/en/products/detail/vishay-dale/CRCW08051K80FKEAC/7922423; Supply 3 SN: N/A; Supply 3 URL: N/A
footprint RESISTOR_0805 (Chip Resistor, 2-Leads, Body 2,00x1,20mm, IPC Medium Density)
pins: 1, 2

## 0008051825
designator R?, comment 1.8k, 1/8W
RES, 1.8k Ohm, size 0805, 5%; Manufacture  Name: Vishay Dale; Manufacture  SN: CRCW08051K80JNEA; Resistance tolerance: +/-5%; Supply 1 Name: Mouser; Supply 1 SN: 71-CRCW08051K80JNEA; Supply 2 Name: Digi-Key; Supply 2 SN: 541-1.8KATR-ND; Supply 3 Name: Thegioiic; Size: 0805; Mounting Technology: SMT; Rated Power: 1/8 W; Datasheet: https://www.vishay.com/docs/20035/dcrcwe3.pdf; Resistance: 1.8k; Supply 1 URL: https://www.mouser.vn/ProductDetail/Vishay-Dale/CRCW08051K80JNEA?qs=1CkV0QOCgMoziGcs0GIg9A%3D%3D; Supply 2 URL: https://www.digikey.com/en/products/detail/vishay-dale/CRCW08051K80JNEA/1175204; Supply 3 SN: N/A; Supply 3 URL: https://www.thegioiic.com/dien-tro-1-8-kohm-0805-5
footprint RESISTOR_0805 (Chip Resistor, 2-Leads, Body 2,00x1,20mm, IPC Medium Density)
pins: 1, 2

## 0008051831
designator R?, comment 18k, 1/8W
RES, 18k Ohm, size 0805, 1%; Manufacture  Name: Vishay Dale; Manufacture  SN: CRCW080518K0FKEAC; Resistance tolerance: +/-1%; Supply 1 Name: Mouser; Supply 1 SN: 71-CRCW0805-18K; Supply 2 Name: Digi-Key; Supply 2 SN: 541-CRCW080518K0FKEACTR-ND; Supply 3 Name: Thegioiic; Size: 0805; Mounting Technology: SMT; Rated Power: 1/8 W; Datasheet: https://www.vishay.com/docs/28773/crcwce3.pdf; Resistance: 18k; Supply 1 URL: https://www.mouser.vn/ProductDetail/Vishay-Dale/CRCW080518K0FKTA?qs=y%252BxuShyeZ0NrSEy0dNjJIA%3D%3D; Supply 2 URL: https://www.digikey.com/en/products/detail/vishay-dale/CRCW080518K0FKEAC/7922446; Supply 3 SN: N/A; Supply 3 URL: N/A
footprint RESISTOR_0805 (Chip Resistor, 2-Leads, Body 2,00x1,20mm, IPC Medium Density)
pins: 1, 2

## 0008051835
designator R?, comment 18k, 1/8W
RES, 18k Ohm, size 0805, 5%; Manufacture  Name: Vishay Dale; Manufacture  SN: CRCW080518K0JNEA; Resistance tolerance: +/-5%; Supply 1 Name: Mouser; Supply 1 SN: 71-CRCW080518K0JNEA; Supply 2 Name: Digi-Key; Supply 2 SN: 541-18KATR-ND; Supply 3 Name: Thegioiic; Size: 0805; Mounting Technology: SMT; Rated Power: 1/8 W; Datasheet: https://www.vishay.com/docs/20035/dcrcwe3.pdf; Resistance: 18k; Supply 1 URL: https://www.mouser.vn/ProductDetail/Vishay-Dale/CRCW080518K0JNEA?qs=DZvKvnD5UYWL7mO9xPXKNA%3D%3D; Supply 2 URL: https://www.digikey.com/en/products/detail/vishay-dale/CRCW080518K0JNEA/1175228; Supply 3 SN: N/A; Supply 3 URL: https://www.thegioiic.com/dien-tro-18-kohm-0805-5
footprint RESISTOR_0805 (Chip Resistor, 2-Leads, Body 2,00x1,20mm, IPC Medium Density)
pins: 1, 2

## 0008051841
designator R?, comment 180k, 1/8W
RES, 180k Ohm, size 0805, 1%; Manufacture  Name: Vishay Dale; Manufacture  SN: CRCW0805180KFKEAC; Resistance tolerance: +/-1%; Supply 1 Name: Mouser; Supply 1 SN: 71-CRCW0805180KFKEA; Supply 2 Name: Digi-Key; Supply 2 SN: 541-CRCW0805180KFKEACTR-ND; Supply 3 Name: Thegioiic; Size: 0805; Mounting Technology: SMT; Rated Power: 1/8 W; Datasheet: https://www.vishay.com/docs/28773/crcwce3.pdf; Resistance: 180k; Supply 1 URL: https://www.mouser.vn/ProductDetail/Vishay-Dale/CRCW0805180KFKEA?qs=2mNt4BZ3oPxkEXJ7pFEQ5A%3D%3D; Supply 2 URL: https://www.digikey.com/en/products/detail/vishay-dale/CRCW0805180KFKEAC/7922559; Supply 3 SN: N/A; Supply 3 URL: https://www.vishay.com/docs/28773/crcwce3.pdf
footprint RESISTOR_0805 (Chip Resistor, 2-Leads, Body 2,00x1,20mm, IPC Medium Density)
pins: 1, 2

## 0008051845
designator R?, comment 180k, 1/8W
RES, 180k Ohm, size 0805, 5%; Manufacture  Name: Vishay Dale; Manufacture  SN: CRCW0805180KJNEA; Resistance tolerance: +/-5%; Supply 1 Name: Mouser; Supply 1 SN: 71-CRCW0805180KJNEA; Supply 2 Name: Digi-Key; Supply 2 SN: 541-180KATR-ND; Supply 3 Name: Thegioiic; Size: 0805; Mounting Technology: SMT; Rated Power: 1/8 W; Datasheet: https://www.vishay.com/docs/20035/dcrcwe3.pdf; Resistance: 180k; Supply 1 URL: https://www.mouser.vn/c/passive-components/resistors/film-resistors/thick-film-resistors-smd/?case%20code%20-%20in=0805&m=Vishay&power%20rating=125%20mW%20%281%2F8%20W%29&resistance=180%20kOhms&tolerance=5%20%25; Supply 2 URL: https://www.digikey.com/en/products/detail/vishay-dale/CRCW0805180KJNEA/1175252; Supply 3 SN: N/A; Supply 3 URL: https://www.thegioiic.com/dien-tro-180-kohm-0805-5
footprint RESISTOR_0805 (Chip Resistor, 2-Leads, Body 2,00x1,20mm, IPC Medium Density)
pins: 1, 2

## 0008051851
designator R?, comment 1.8M, 1/8W
RES, 1.8M Ohm, size 0805, 1%; Manufacture  Name: Vishay Dale; Resistance tolerance: +/-1%; Supply 1 Name: Mouser; Supply 1 SN: 71-CRCW08051M80FKEAC; Supply 2 Name: Digi-Key; Supply 3 Name: Thegioiic; Size: 0805; Mounting Technology: SMT; Rated Power: 1/8 W; Datasheet: N/A; Supply 1 URL: https://www.mouser.vn/ProductDetail/Vishay-Dale/CRCW08051M80FKEAC?qs=E3Y5ESvWgWPnWxcGndSAkw%3D%3D; Supply 2 SN: 71-CRCW08051M80FKEAC; Supply 2 URL: https://www.digikey.com/en/products/detail/vishay-dale/CRCW08051M80FKEA/1176043; Supply 3 SN: N/A; Supply 3 URL: N/A; Manufacture  SN: N/A; Resistance: 1.8M
footprint RESISTOR_0805 (Chip Resistor, 2-Leads, Body 2,00x1,20mm, IPC Medium Density)
pins: 1, 2

## 0008051855
designator R?, comment 1.8M, 1/8W
RES, 1.8M Ohm, size 0805, 5%; Manufacture  Name: Vishay Dale; Manufacture  SN: CRCW08051M80JNEA; Resistance tolerance: +/-5%; Supply 1 Name: Mouser; Supply 1 SN: 71-CRCW08051M80JNEA; Supply 2 Name: Digi-Key; Supply 2 SN: 541-1.8MATR-ND; Supply 3 Name: Thegioiic; Size: 0805; Mounting Technology: SMT; Rated Power: 1/8 W; Datasheet: https://www.vishay.com/docs/20035/dcrcwe3.pdf; Supply 1 URL: https://www.mouser.vn/ProductDetail/Vishay-Dale/CRCW08051M80JNEA?qs=1CkV0QOCgMorN9CsUzm1mw%3D%3D; Supply 2 URL: https://www.digikey.com/en/products/detail/vishay-dale/CRCW08051M80JNEA/1175276; Supply 3 SN: N/A; Supply 3 URL: https://www.thegioiic.com/dien-tro-1-8-mohm-0805-5; Resistance: 1.8M
footprint RESISTOR_0805 (Chip Resistor, 2-Leads, Body 2,00x1,20mm, IPC Medium Density)
pins: 1, 2

## 0008051901
designator R?, comment 19, 1/8W
RES, 19 Ohm, size 0805, 1%; Manufacture  Name: Vishay Dale; Manufacture  SN: CRCW080519R1FKEA; Resistance tolerance: +/-1%; Resistance: 19; Supply 1 Name: Mouser; Supply 1 SN: 71-CRCW080519R1FKEA; Supply 2 Name: Digi-Key; Supply 2 SN: 541-19.1CTR-ND; Supply 3 Name: Thegioiic; Size: 0805; Mounting Technology: SMT; Rated Power: 1/8 W; Datasheet: https://www.vishay.com/docs/20035/dcrcwe3.pdf; Supply 1 URL: https://www.mouser.vn/ProductDetail/Vishay-Dale/CRCW080519R1FKEA?qs=DZvKvnD5UYXfdXVlAdbS3g%3D%3D; Supply 2 URL: https://www.digikey.com/en/products/detail/vishay-dale/CRCW080519R1FKEA/1175439; Supply 3 SN: N/A; Supply 3 URL: N/A
footprint RESISTOR_0805 (Chip Resistor, 2-Leads, Body 2,00x1,20mm, IPC Medium Density)
pins: 1, 2

## 0008051911
designator R?, comment 190, 1/8W
RES, 190 Ohm, size 0805, 1%; Manufacture  Name: Vishay Dale; Manufacture  SN: CRCW0805191RFKEA; Resistance tolerance: +/-1%; Resistance: 190; Supply 1 Name: Mouser; Supply 1 SN: 71-CRCW0805191RFKEA; Supply 2 Name: Digi-Key; Supply 2 SN: 541-191CTR-ND; Supply 3 Name: Thegioiic; Size: 0805; Mounting Technology: SMT; Rated Power: 1/8 W; Datasheet: https://www.vishay.com/docs/20035/dcrcwe3.pdf; Supply 1 URL: https://www.mouser.vn/ProductDetail/Vishay-Dale/CRCW0805191RFKEA?qs=DZvKvnD5UYVwpMLdTR87ZQ%3D%3D; Supply 2 URL: https://www.digikey.com/en/products/detail/vishay-dale/CRCW0805191RFKEA/1175553; Supply 3 SN: N/A; Supply 3 URL: N/A
footprint RESISTOR_0805 (Chip Resistor, 2-Leads, Body 2,00x1,20mm, IPC Medium Density)
pins: 1, 2

## 0008051921
designator R?, comment 1.9k, 1/8W
RES, 1.9k Ohm, size 0805, 1%; Manufacture  Name: Vishay Dale; Manufacture  SN: CRCW08051K91FKEA; Resistance tolerance: +/-1%; Supply 1 Name: Mouser; Supply 1 SN: 71-CRCW08051K91FKEAC; Supply 2 Name: Digi-Key; Supply 2 SN: 541-1.91KCTR-ND; Supply 3 Name: Thegioiic; Size: 0805; Mounting Technology: SMT; Rated Power: 1/8 W; Datasheet: https://www.vishay.com/docs/20035/dcrcwe3.pdf; Resistance: 1.9k; Supply 1 URL: https://www.mouser.vn/ProductDetail/Vishay-Dale/CRCW08051K91FKEAC?qs=E3Y5ESvWgWNbW88wEVrLPg%3D%3D; Supply 2 URL: https://www.digikey.com/en/products/detail/vishay-dale/CRCW08051K91FKEA/1175667; Supply 3 SN: N/A; Supply 3 URL: N/A
footprint RESISTOR_0805 (Chip Resistor, 2-Leads, Body 2,00x1,20mm, IPC Medium Density)
pins: 1, 2

## 0008051931
designator R?, comment 19k, 1/8W
RES, 19k Ohm, size 0805, 1%; Manufacture  Name: Vishay Dale; Manufacture  SN: CRCW080519K0FKTA; Resistance tolerance: +/-1%; Supply 1 Name: Mouser; Supply 1 SN: 71-CRCW0805-19.1K; Supply 2 Name: Digi-Key; Supply 2 SN: CRCW080519K0FKTA-ND; Supply 3 Name: Thegioiic; Size: 0805; Mounting Technology: SMT; Rated Power: 1/8 W; Datasheet: https://www.vishay.com/docs/20008/dcrcw.pdf; Resistance: 19k; Supply 1 URL: https://www.mouser.vn/c/passive-components/resistors/film-resistors/thick-film-resistors-smd/?case%20code%20-%20in=0805&case%20code%20-%20mm=2012&m=Vishay&power%20rating=125%20mW%20%281%2F8%20W%29&resistance=19.1%20kOhms&termination%20style=SMD%2FSMT&tolerance=1%20%25; Supply 2 URL: https://www.digikey.com/en/products/detail/vishay-dale/CRCW080519K0FKTA/5074036?s=N4IgjCBcoExaBjKAzAhgGwM4FMA0IB7KAbXAAYAOAdgE4QBdfABwBcoQBlFgJwEsA7AOYgAvvgDM8EEkhoseQiXBhxERiFbsufIaPxgYNCNGkoMOfEUilxNcTAoNmbSJx4DhYkDEoBWKTJyForW4DQABADWAPIAFgC2mE4aLiAAqvy8LNHIALLYqJgArtzYeiAAtMaIZvKWSr4ALGoirUA; Supply 3 SN: N/A; Supply 3 URL: N/A
footprint RESISTOR_0805 (Chip Resistor, 2-Leads, Body 2,00x1,20mm, IPC Medium Density)
pins: 1, 2

## 0008051941
designator R?, comment 190k, 1/8W
RES, 190k Ohm, size 0805, 1%; Manufacture  Name: Vishay Dale; Manufacture  SN: CRCW0805191KFKEAC; Resistance tolerance: +/-1%; Supply 1 Name: Mouser; Supply 1 SN: 71-CRCW0805191KFKEAC; Supply 2 Name: Digi-Key; Supply 2 SN: 541-CRCW0805191KFKEACTR-ND; Supply 3 Name: Thegioiic; Size: 0805; Mounting Technology: SMT; Rated Power: 1/8 W; Datasheet: https://www.vishay.com/docs/28773/crcwce3.pdf; Resistance: 190k; Supply 1 URL: https://www.mouser.vn/ProductDetail/Vishay-Dale/CRCW0805191KFKEAC?qs=wd5RIQLrsJiMbMBlRMtkHQ%3D%3D; Supply 2 URL: https://www.digikey.com/en/products/detail/vishay-dale/CRCW0805191KFKEAC/7922825; Supply 3 SN: N/A; Supply 3 URL: https://www.mouser.vn/ProductDetail/Vishay-Dale/CRCW0805191KFKEAC?qs=wd5RIQLrsJiMbMBlRMtkHQ%3D%3D
footprint RESISTOR_0805 (Chip Resistor, 2-Leads, Body 2,00x1,20mm, IPC Medium Density)
pins: 1, 2

## 0008051951
designator R?, comment 1.9M, 1/8W
RES, 1.9M Ohm, size 0805, 1%; Manufacture  Name: Vishay Dale; Manufacture  SN: CRCW08051M91FKEAC; Resistance tolerance: +/-1%; Supply 1 Name: Mouser; Supply 1 SN: 71-CRCW08051M91FKEA; Supply 2 Name: Digi-Key; Supply 2 SN: CRCW08051M91FKEAC-ND; Supply 3 Name: Thegioiic; Size: 0805; Mounting Technology: SMT; Rated Power: 1/8 W; Datasheet: https://www.vishay.com/docs/28773/crcwce3.pdf; Resistance: 1.9M; Supply 1 URL: https://www.mouser.vn/ProductDetail/Vishay-Dale/CRCW08051M91FKEA?qs=4T2aWUY5LRN4KaJWeIV0TQ%3D%3D; Supply 2 URL: https://www.digikey.com/en/products/detail/vishay-dale/CRCW08051M91FKEAC/7923108; Supply 3 SN: N/A; Supply 3 URL: N/A
footprint RESISTOR_0805 (Chip Resistor, 2-Leads, Body 2,00x1,20mm, IPC Medium Density)
pins: 1, 2

## 0008052001
designator R?, comment 20, 1/8W
RES, 20 Ohm, size 0805, 1%; Manufacture  Name: Vishay Dale; Manufacture  SN: CRCW080520R0FKEA; Resistance tolerance: +/-1%; Resistance: 20; Supply 1 Name: Mouser; Supply 1 SN: 71-CRCW080520R0FKEBC; Supply 2 Name: Digi-Key; Supply 2 SN: 541-20.0CTR-ND; Supply 3 Name: Thegioiic; Size: 0805; Mounting Technology: SMT; Rated Power: 1/8 W; Datasheet: https://www.vishay.com/docs/20035/dcrcwe3.pdf; Supply 1 URL: https://www.mouser.vn/ProductDetail/Vishay-Dale/CRCW080520R0FKEBC?qs=wd5RIQLrsJh%2FR92AkXDUUQ%3D%3D; Supply 2 URL: https://www.digikey.com/en/products/detail/vishay-dale/CRCW080520R0FKEA/1175441; Supply 3 SN: N/A; Supply 3 URL: N/A
footprint RESISTOR_0805 (Chip Resistor, 2-Leads, Body 2,00x1,20mm, IPC Medium Density)
pins: 1, 2

## 0008052005
designator R?, comment 20, 1/8W
RES, 20 Ohm, size 0805, 5%; Manufacture  Name: Vishay Dale; Manufacture  SN: CRCW080520R0JNEAC; Resistance tolerance: +/-5%; Resistance: 20; Supply 1 Name: Mouser; Supply 1 SN: 71-CRCW080520R0JNEA; Supply 2 Name: Digi-Key; Supply 2 SN: 541-CRCW080520R0JNEACTR-ND; Supply 3 Name: Thegioiic; Size: 0805; Mounting Technology: SMT; Rated Power: 1/8 W; Datasheet: https://www.vishay.com/docs/28773/crcwce3.pdf; Supply 1 URL: https://www.mouser.vn/ProductDetail/Vishay-Dale/CRCW080520R0FKEBC?qs=wd5RIQLrsJh%2FR92AkXDUUQ%3D%3D; Supply 2 URL: https://www.mouser.vn/ProductDetail/Vishay-Dale/CRCW080520R0JNEA?qs=t6Mf8e9K%2FulaBeAax0Rq9A%3D%3D; Supply 3 SN: N/A; Supply 3 URL: https://www.thegioiic.com/dien-tro-20-ohm-0805-5-
footprint RESISTOR_0805 (Chip Resistor, 2-Leads, Body 2,00x1,20mm, IPC Medium Density)
pins: 1, 2

## 0008052011
designator R?, comment 200, 1/8W
RES, 200 Ohm, size 0805, 1%; Manufacture  Name: Vishay Dale; Manufacture  SN: CRCW0805200RFKEAC; Resistance tolerance: +/-1%; Resistance: 200; Supply 1 Name: Mouser; Supply 1 SN: 71-CRCW0805200RFKEBC; Supply 2 Name: Digi-Key; Supply 2 SN: 541-4146-2-ND; Supply 3 Name: Thegioiic; Size: 0805; Mounting Technology: SMT; Rated Power: 1/8 W; Datasheet: https://www.vishay.com/docs/28773/crcwce3.pdf; Supply 1 URL: https://www.mouser.vn/ProductDetail/Vishay-Dale/CRCW0805200RFKEBC?qs=wd5RIQLrsJjaNQUh4mW%252B3A%3D%3D; Supply 2 URL: https://www.digikey.com/en/products/detail/vishay-dale/CRCW0805200RFKEAC/7928568; Supply 3 SN: N/A; Supply 3 URL: N/A
footprint RESISTOR_0805 (Chip Resistor, 2-Leads, Body 2,00x1,20mm, IPC Medium Density)
pins: 1, 2

## 0008052015
designator R?, comment 200, 1/8W
RES, 200 Ohm, size 0805, 5%; Manufacture  Name: Vishay Dale; Manufacture  SN: CRCW0805200RJNEA; Resistance tolerance: +/-5%; Resistance: 200; Supply 1 Name: Mouser; Supply 1 SN: 71-CRCW0805200RJNEB; Supply 2 Name: Digi-Key; Supply 2 SN: 541-200ATR-ND; Supply 3 Name: Thegioiic; Size: 0805; Mounting Technology: SMT; Rated Power: 1/8 W; Datasheet: https://www.vishay.com/docs/20035/dcrcwe3.pdf; Supply 1 URL: https://www.mouser.vn/ProductDetail/Vishay-Dale/CRCW0805200RJNEB?qs=t6Mf8e9K%2Fuk2QHyNFfSEGg%3D%3D; Supply 2 URL: https://www.digikey.com/en/products/detail/vishay-dale/CRCW0805200RJNEA/1175181; Supply 3 SN: N/A; Supply 3 URL: https://www.thegioiic.com/dien-tro-200-ohm-0805-5
footprint RESISTOR_0805 (Chip Resistor, 2-Leads, Body 2,00x1,20mm, IPC Medium Density)
pins: 1, 2

## 0008052021
designator R?, comment 2k, 1/8W
RES, 2k Ohm, size 0805, 1%; Manufacture  Name: Vishay Dale; Manufacture  SN: CRCW08052K00FKEBC; Resistance tolerance: +/-1%; Supply 1 Name: Mouser; Supply 1 SN: 71-CRCW08052K00FKEBC; Supply 2 Name: Digi-Key; Supply 2 SN: 541-CRCW08052K00FKEBCTR-ND; Supply 3 Name: Thegioiic; Size: 0805; Mounting Technology: SMT; Rated Power: 1/8 W; Datasheet: https://www.vishay.com/docs/28773/crcwce3.pdf; Resistance: 2k; Supply 1 URL: https://www.mouser.vn/ProductDetail/Vishay-Dale/CRCW08052K00FKEBC?qs=wd5RIQLrsJimvZ2z7rs9jQ%3D%3D; Supply 2 URL: https://www.digikey.com/en/products/detail/vishay-dale/CRCW08052K00FKEBC/7923203; Supply 3 SN: N/A; Supply 3 URL: N/A
footprint RESISTOR_0805 (Chip Resistor, 2-Leads, Body 2,00x1,20mm, IPC Medium Density)
pins: 1, 2

## 0008052025
designator R?, comment 2k, 1/8W
RES, 2k Ohm, size 0805, 5%; Manufacture  Name: Vishay Dale; Manufacture  SN: CRCW08052K00JNEA; Resistance tolerance: +/-5%; Supply 1 Name: Mouser; Supply 1 SN: 71-CRCW08052K00JNEA; Supply 2 Name: Digi-Key; Supply 2 SN: 541-2.0KATR-ND; Supply 3 Name: Thegioiic; Size: 0805; Mounting Technology: SMT; Rated Power: 1/8 W; Datasheet: https://www.vishay.com/docs/20035/dcrcwe3.pdf; Resistance: 2k; Supply 1 URL: https://www.mouser.vn/ProductDetail/Vishay-Dale/CRCW08052K00JNEA?qs=SM0pg8AlB3peKJz4hE%252BhDA%3D%3D; Supply 2 URL: https://www.digikey.com/en/products/detail/vishay-dale/CRCW08052K00JNEA/1175205; Supply 3 SN: N/A; Supply 3 URL: https://www.thegioiic.com/dien-tro-2-kohm-0805-5
footprint RESISTOR_0805 (Chip Resistor, 2-Leads, Body 2,00x1,20mm, IPC Medium Density)
pins: 1, 2

## 0008052031
designator R?, comment 20k, 1/8W
RES, 20k Ohm, size 0805, 1%; Manufacture  Name: Vishay Dale; Manufacture  SN: CRCW080520K0FKEAC; Resistance tolerance: +/-1%; Supply 1 Name: Mouser; Supply 1 SN: 71-CRCW0805-20K; Supply 2 Name: Digi-Key; Supply 2 SN: 541-4133-2-ND; Supply 3 Name: Thegioiic; Size: 0805; Mounting Technology: SMT; Rated Power: 1/8 W; Datasheet: https://www.vishay.com/docs/28773/crcwce3.pdf; Resistance: 20k; Supply 1 URL: https://www.mouser.vn/ProductDetail/Vishay-Dale/CRCW080520K0FKTA?qs=18bRiP0yrODnUEny%2FmPwqA%3D%3D; Supply 2 URL: https://www.digikey.com/en/products/detail/vishay-dale/CRCW080520K0FKEAC/7928555; Supply 3 SN: N/A; Supply 3 URL: https://www.thegioiic.com/dien-tro-20-kohm-0805-1
footprint RESISTOR_0805 (Chip Resistor, 2-Leads, Body 2,00x1,20mm, IPC Medium Density)
pins: 1, 2

## 0008052035
designator R?, comment 20k, 1/8W
RES, 20k Ohm, size 0805, 5%; Manufacture  Name: Panasonic; Manufacture  SN: ERJ-U06J203V; Resistance tolerance: +/-5%; Supply 1 Name: Mouser; Supply 1 SN: 667-ERJ-U06J203V; Supply 2 Name: Digi-Key; Supply 2 SN: P20KATR-ND - Tape & Reel (TR); Supply 3 Name: Thegioiic; Size: 0805; Mounting Technology: SMT; Rated Power: 1/8 W; Datasheet: https://www.mouser.vn/datasheet/2/315/AOA0000C334-1314047.pdf; Resistance: 20k; Supply 1 URL: https://www.mouser.vn/ProductDetail/Panasonic/ERJ-U06J203V?qs=Yyy8avaXlIv0b2cRsnbjDw%3D%3D; Supply 2 URL: https://www.digikey.com/en/products/detail/panasonic-electronic-components/ERJ-6GEYJ203V/83076; Supply 3 SN: N/A; Supply 3 URL: https://www.thegioiic.com/dien-tro-20-kohm-0805-5-
footprint RESISTOR_0805 (Chip Resistor, 2-Leads, Body 2,00x1,20mm, IPC Medium Density)
pins: 1, 2

## 0008052035_1
designator R?, comment 20k, 1/8W
RES, 20k Ohm, size 0805, 5%; Manufacture  Name: Vishay Dale; Manufacture  SN: CRCW080520K0JNEA; Resistance tolerance: +/-5%; Supply 1 Name: Mouser; Supply 1 SN: 71-CRCW0805J-20K-E3; Supply 2 Name: Digi-Key; Supply 2 SN: 541-20KATR-ND; Supply 3 Name: Thegioiic; Size: 0805; Mounting Technology: SMT; Rated Power: 1/8 W; Datasheet: https://www.vishay.com/docs/20035/dcrcwe3.pdf; Resistance: 20k; Supply 1 URL: https://www.mouser.vn/ProductDetail/Vishay-Dale/CRCW080520K0JNEA?qs=t6Mf8e9K%2FunNZ57Hz5Mz5w%3D%3D; Supply 2 URL: https://www.digikey.com/en/products/detail/vishay-dale/CRCW080520K0JNEA/1175229; Supply 3 SN: N/A; Supply 3 URL: https://www.thegioiic.com/dien-tro-20-kohm-0805-5-
footprint RESISTOR_0805 (Chip Resistor, 2-Leads, Body 2,00x1,20mm, IPC Medium Density)
pins: 1, 2

## 0008052051
designator R?, comment 2M, 1/8W
RES, 2M Ohm, size 0805, 1%; Manufacture  Name: Panasonic; Manufacture  SN: ERJ-6ENF2004V; Resistance tolerance: +/-1%; Supply 1 Name: Mouser; Supply 1 SN: 667-ERJ-6ENF2004V; Supply 2 Name: Digi-Key; Supply 3 Name: Thegioiic; Size: 0805; Mounting Technology: SMT; Rated Power: 1/8 W; Datasheet: https://www.mouser.vn/datasheet/2/315/AOA0000C304-1149620.pdf; Resistance: 2M; Supply 1 URL: https://www.mouser.vn/ProductDetail/Panasonic/ERJ-6ENF2004V?qs=50QC8w71jAsSP8AJKmX4kA%3D%3D; Supply 2 SN: N/A; Supply 2 URL: N/A; Supply 3 SN: N/A; Supply 3 URL: N/A
footprint RESISTOR_0805 (Chip Resistor, 2-Leads, Body 2,00x1,20mm, IPC Medium Density)
pins: 1, 2

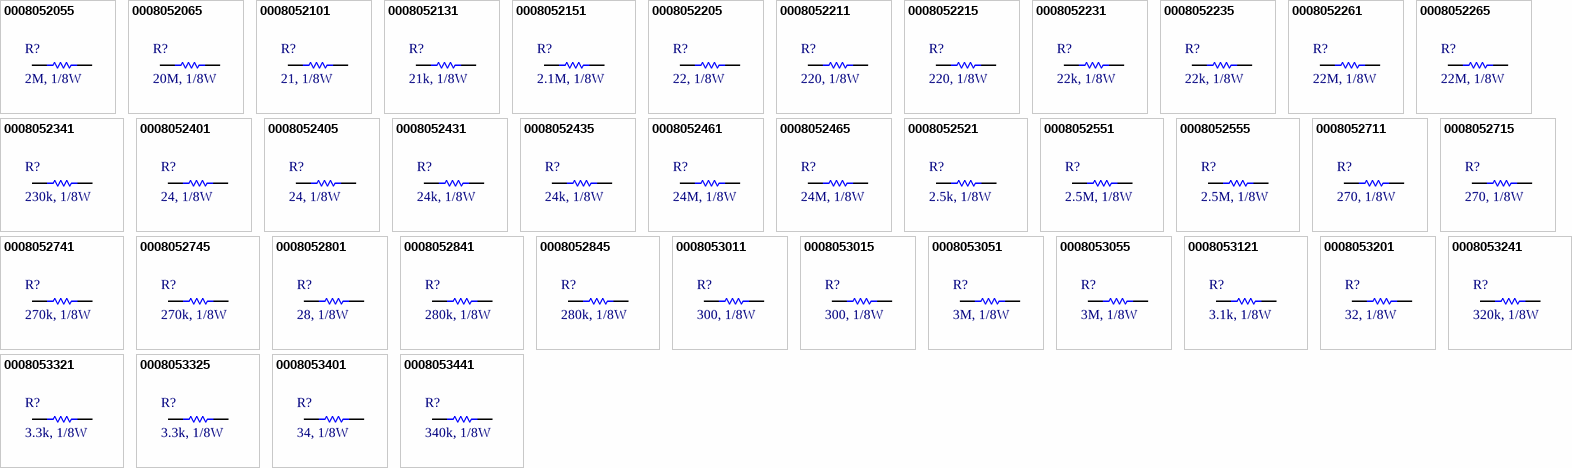
[diagram p3: symbols 0008052055 to 0008053441]

## 0008052055
designator R?, comment 2M, 1/8W
RES, 2M Ohm, size 0805, 5%; Manufacture  Name: Panasonic; Manufacture  SN: ERJ-6GEYJ205V; Resistance tolerance: +/-5%; Supply 1 Name: Mouser; Supply 1 SN: 667-ERJ-6GEYJ205V; Supply 2 Name: Digi-Key; Supply 2 SN: 10-ERJ-U06J205VTR-ND - Tape & Reel (TR); Supply 3 Name: Thegioiic; Size: 0805; Mounting Technology: SMT; Rated Power: 1/8 W; Datasheet: https://www.mouser.vn/datasheet/2/315/AOA0000C301-1488782.pdf; Resistance: 2M; Supply 1 URL: https://www.mouser.vn/ProductDetail/Panasonic/ERJ-6GEYJ205V?qs=8%252BG0TiN%2FgVosrBfWIhyhKw%3D%3D; Supply 2 URL: https://www.digikey.com/en/products/detail/panasonic-electronic-components/ERJ-U06J205V/11631387; Supply 3 SN: N/A; Supply 3 URL: N/A
footprint RESISTOR_0805 (Chip Resistor, 2-Leads, Body 2,00x1,20mm, IPC Medium Density)
pins: 1, 2